# EAGLE library part 90325-9016 (library molex)
HEADER
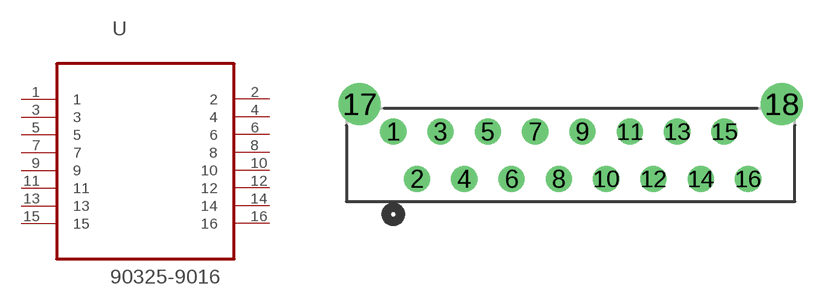
[diagram p47: symbol with the pads of MOLEX_90325-9016; footprint MOLEX_90325-9016]

Designator prefix U

## 90325-9016 (MPN: 90325-9016; OC_FARNELL: 1757016; OC_NEWARK: 34R6206; PACKAGE: HEADER, 1.27MM, 16 WAY; SUPPLIER: Molex)  [MOLEX_90325-9016]
1  1  pas
2  2  pas
3  3  pas
4  4  pas
5  5  pas
6  6  pas
7  7  pas
8  8  pas
9  9  pas
10  10  pas
11  11  pas
12  12  pas
13  13  pas
14  14  pas
15  15  pas
16  16  pas

## Footprint MOLEX_90325-9016 (pad centres in mm)
drill 0.889: 1 0,5.08; 2 1.27,2.54; 3 2.54,5.08; 4 3.81,2.54; 5 5.08,5.08; 6 6.35,2.54; 7 7.62,5.08; 8 8.89,2.54; 9 10.16,5.08; 10 11.43,2.54; 11 12.7,5.08; 12 13.97,2.54; 13 15.24,5.08; 14 16.51,2.54; 15 17.78,5.08; 16 19.05,2.54
drill 1.499: 17 -1.803,6.553; 18 20.853,6.553